# Altium footprint library PcbLib1.PcbLib: 37 footprints (part 2 of 3)
Each footprint in its own frame and in the unit in brackets; x right, y up, seen from the top. Pads: shape width x height; smd on the part's side, far side on the other; paste and mask are expansions set on the pad; w line width, h text height; cw(c..) or ccw(c..) is an arc to the next point about the centre after c.
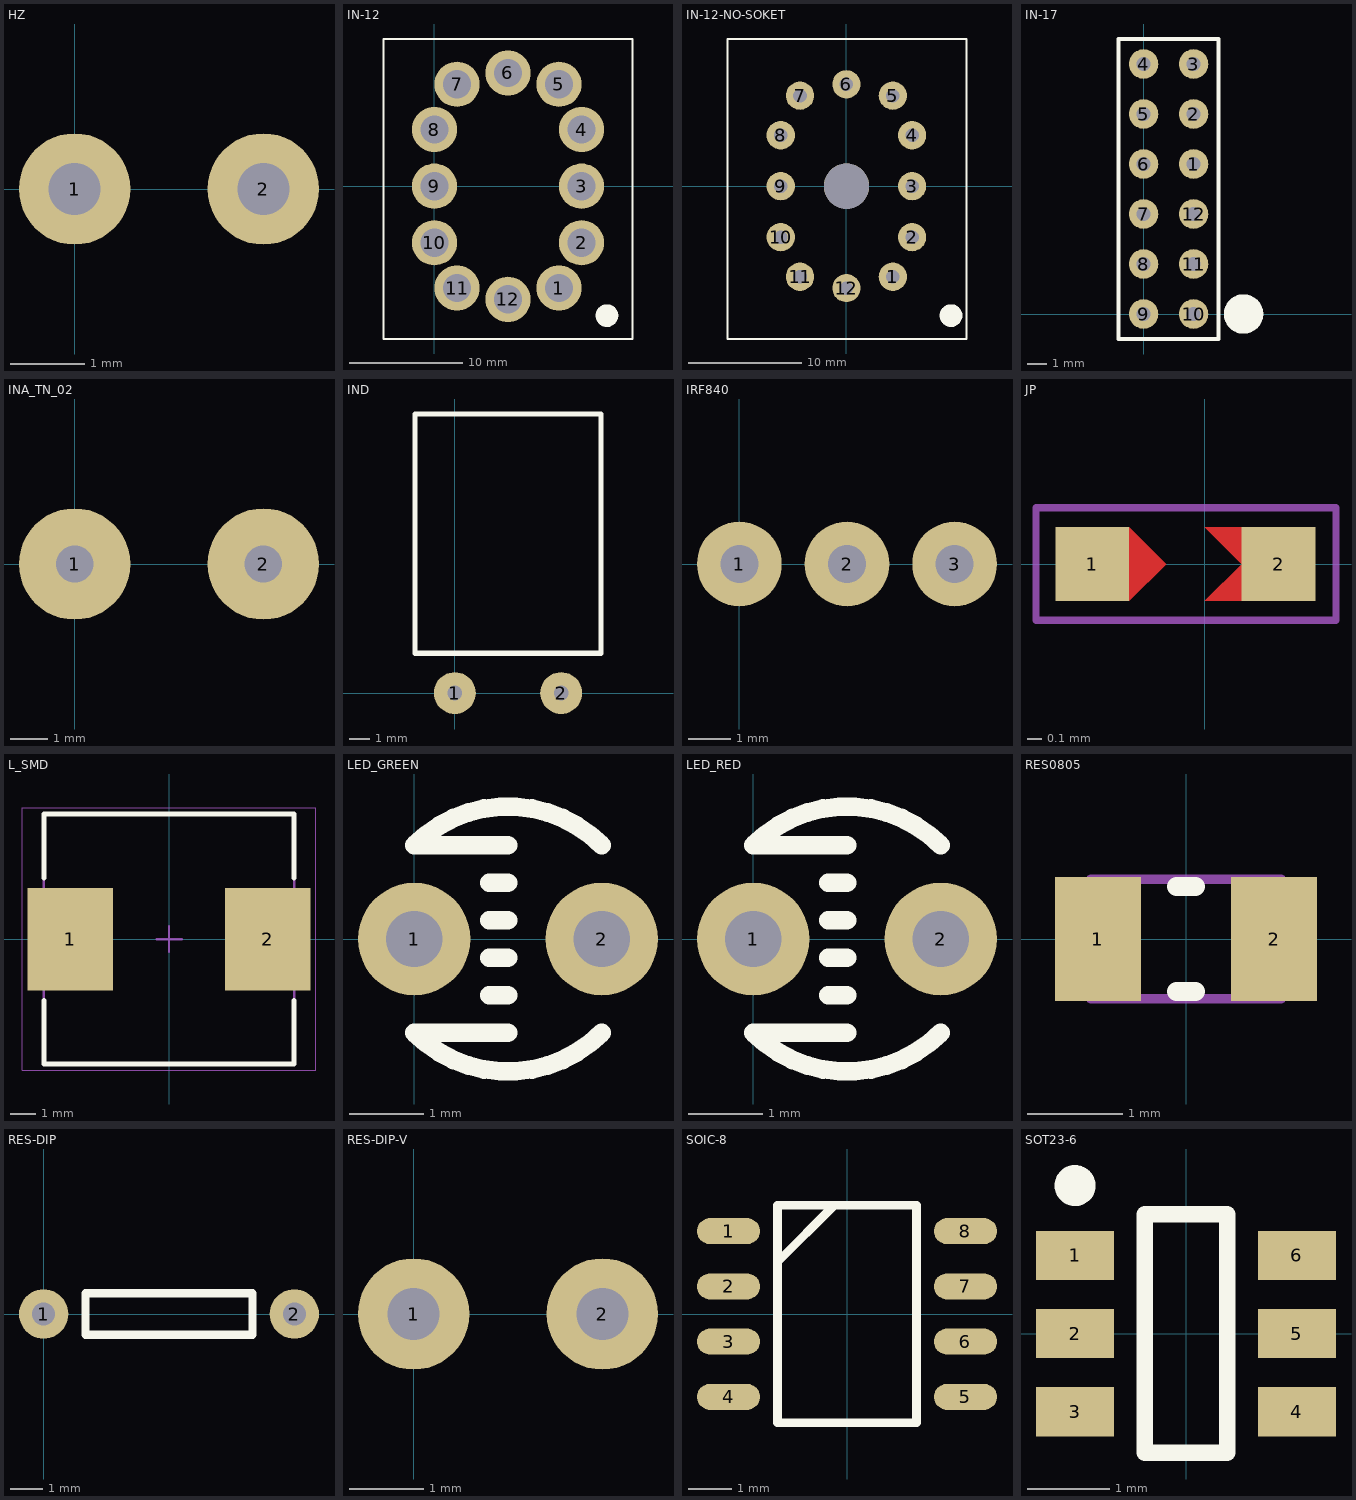
[diagram p1: the footprints below, top view; thin cyan lines are the x and y axes]

## HZ [mm]
pads (2):
  round 1.5 hole 0.7: 1(0,0) 2(2.54,0)

## IN-12 [mm]
pads (12):
  round 4 hole 2.5: 1(11,-9) 2(13,-5) 3(13,0) 4(13,5) 5(11,9) 6(6.5,10) 7(2,9) 8(0,5) 9(0,0) 10(0,-5) 11(2,-9) 12(6.5,-10)
Top Overlay:
  circle w1: c15.24,-11.43 r0.5
  lines w0.2: -4.5,-13.5 17.5,-13.5 17.5,13 -4.5,13 -4.5,-13.5
3D body "IN-12A.stp": height 40, standoff 5, extent -4.15,-15.5 16.85,15.5
3D body "SK-136 Socket.STEP": height 11.3, standoff -4, extent -4.55,-20.596 17.25,20.593

## IN-12-NO-SOKET [mm]
pads (13):
  round 2.5 hole 1.2: 1(4.1,-8) 2(5.8,-4.5) 3(5.8,0) 4(5.8,4.5) 5(4.1,8) 6(0,9) 7(-4.1,8) 8(-5.8,4.5) 9(-5.8,0) 10(-5.8,-4.5) 11(-4.1,-8) 12(0,-9)
  round 4 hole 4 unplated: ""(0,0)
Top Overlay:
  circle w1: c9.24,-11.43 r0.5
  lines w0.2: -10.5,-13.5 10.6,-13.5 10.6,13 -10.5,13 -10.5,-13.5
3D body "IN-12A.stp": height 30, standoff -5, extent -10.5,-15.5 10.5,15.5

## IN-17 [mm]
pads (12):
  round 1.5 hole 0.7: 1(2.54,7.62) 2(2.54,10.16) 3(2.54,12.7) 4(0,12.7) 5(0,10.16) 6(0,7.62) 7(0,5.08) 8(0,2.54) 9(0,0) 10(2.54,0) 11(2.54,2.54) 12(2.54,5.08)
Top Overlay:
  circle w1: c5.08,0 r0.5
  lines w0.2: -1.27,-1.27 3.81,-1.27 3.81,13.97 -1.27,13.97 -1.27,-1.27

## INA_TN_02 [mm]
pads (2):
  round 3 hole 1: 1(0,0) 2(5.08,0)

## IND [mm]
pads (2):
  round 2 hole 0.7: 1(0,0) 2(5.08,0)
Top Overlay:
  lines w0.254: -1.905,1.905 6.985,1.905 6.985,13.335 -1.905,13.335 -1.905,1.905
3D body "bobina_100uH.STEP": height 8.75, standoff 0.25, extent -1.71,-1.27 6.79,12.73

## IRF840 [mm]
pads (3):
  round 2 hole 0.9: 1(0,0) 2(2.54,0) 3(5.08,0)
3D body "TO-220_horizontal_line.stp": height 4.65, standoff -3, extent -2.71,-0.254 7.79,19.996

## JP [mm] "Chip Resistor, 2-Leads, Body 2,00x1,25mm, IPC Medium Density"
height 0.4
pads (2):
  rect 0.5x0.5 smd: 1(-0.762,0) 2(0.5,0)
Top Layer:
  region: 0,0.25 0.5,0.25 0.5,-0.25 0,-0.25 0.25,0
  region: -0.762,0.25 -0.512,0.25 -0.262,0 -0.512,-0.25 -0.762,-0.25
Top Solder:
  region: -0.512,0.35 0.15,0.35 0.15,-0.35 -0.512,-0.35
Top Courtyard:
  lines w0.05: -1.143,-0.381 0.889,-0.381 0.889,0.381 -1.143,0.381 -1.143,-0.381

## L_SMD [mm] "Precision Wire Wound Inductor, 2-Leads, Body 10,00x10,00mm, IPC Medium Density"
height 3
pads (2):
  rect 3.4x4.1 smd: 1(-3.95,0) 2(3.95,0)
Top Overlay:
  lines w0.2: -5,-2.45 -5,-5 5,-5 5,-2.45 ; -5,2.45 -5,5 5,5 5,2.45
Mechanical 13:
  lines w0.1: -5,-5 5,-5 5,5 -5,5 -5,-5
Mechanical 15:
  lines w0.05: -5.875,-5.25 5.875,-5.25 5.875,5.25 -5.875,5.25 -5.875,-5.25
  lines w0.1: -0.5,0 0.5,0 ; 0,-0.5 0,0.5
3D body "INDP100100X30N.step": height 3.1, standoff 0, extent -5.1,-5 5.1,5

## LED_GREEN [mil]
pads (2):
  round 60 hole 30: 1(0,0) 2(100,0)
Top Overlay:
  lines w10: 40,-30 50,-30 ; 40,-10 50,-10 ; 40,10 50,10 ; 40,30 50,30 ; 50,-50 0,-50 ccw(c50,0) 100,-50 ; 50,50 0,50 cw(c50,0) 100,50
3D body "LED 3mm Green 6mm Leads.step": height 409.06, standoff -38.98, extent -25.78,-75.73 111.82,75.75

## LED_RED [mil]
pads (2):
  round 60 hole 30: 1(0,0) 2(100,0)
Top Overlay:
  lines w10: 40,-30 50,-30 ; 40,-10 50,-10 ; 40,10 50,10 ; 40,30 50,30 ; 50,-50 0,-50 ccw(c50,0) 100,-50 ; 50,50 0,50 cw(c50,0) 100,50
3D body "LED 3mm Red 6mm Leads.step": height 409.06, standoff -38.98, extent -25.78,-75.73 111.82,75.75

## RES0805 [mm] "Chip Resistor, 2-Leads, Body 2,00x1,25mm, IPC Medium Density"
height 0.7
pads (2):
  rect 0.9x1.3 smd: 1(-0.925,0) 2(0.925,0)
Top Overlay:
  lines w0.2: -0.1,-0.55 0.1,-0.55 ; -0.1,0.55 0.1,0.55
Mechanical 13:
  lines w0.1: -1,-0.625 1,-0.625 1,0.625 -1,0.625 -1,-0.625
3D body "RESC2012X07N.step": height 0.7, standoff 0, extent -1,-0.625 1,0.625

## RES-DIP [mm]
pads (2):
  round 1.5 hole 0.7: 1(0,0) 2(7.62,0)
Top Overlay:
  lines w0.254: 1.27,-0.635 6.35,-0.635 6.35,0.635 1.27,0.635 1.27,-0.635
3D body "Resistor TH horizontal 7,62.stp": height 2.51, standoff -2, extent -0.174,-1.172 7.794,1.143

## RES-DIP-V [mm]
pads (2):
  round 1.5 hole 0.7: 1(0,0) 2(2.54,0)
3D body "Resistor TH vertical 2,54.stp": height 8.18, standoff -2, extent -1.17,-1.143 2.695,1.157

## SOIC-8 [mm] "SOIC, 8-Leads, Body 4,88x3,90mm, Pitch 1,27mm, IPC Medium Density"
height 1.75
pads (8):
  oval 1.45x0.6 smd: 1(-2.725,1.905) 2(-2.725,0.635) 3(-2.725,-0.635) 4(-2.725,-1.905) 5(2.725,-1.905) 6(2.725,-0.635) 7(2.725,0.635) 8(2.725,1.905)
Top Overlay:
  lines w0.2: -1.6,1.194 -0.294,2.5 ; -1.6,-2.5 -1.6,2.5 1.6,2.5 1.6,-2.5 -1.6,-2.5
3D body "SOIC8.STEP": height 1.5, standoff 0, extent -2.95,-2.45 2.95,2.45

## SOT23-6 [mm] "SOT23, 6-Leads, Body 2,85x2,80mm, Pitch 0,95mm, IPC Medium Density"
height 1.1
pads (6):
  rect 0.95x0.6 smd: 1(-1.35,0.95) 2(-1.35,0) 3(-1.35,-0.95) 4(1.35,-0.95) 5(1.35,0) 6(1.35,0.95)
Top Overlay:
  circle w0.25: c-1.35,1.8 r0.125
  lines w0.2: -0.5,-1.45 0.5,-1.45 0.5,1.45 -0.5,1.45 -0.5,-1.45
3D body "SOT23-6.STEP": height 1.1, standoff 0, extent -1.392,-1.45 1.393,1.45